# EAGLE library part DC/DC_CONV_24V (library launch-tower)
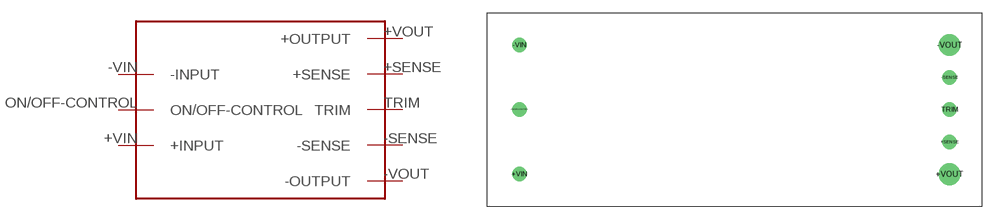
[diagram p1: symbol with the pads of UWE; footprint UWE]

Designator prefix -

## DC/DC_CONV_24V  [UWE]
+SENSE  +SENSE
+VIN  +INPUT
+VOUT  +OUTPUT
-SENSE  -SENSE
-VIN  -INPUT
-VOUT  -OUTPUT
ON/OFF-CONTROL  ON/OFF-CONTROL
TRIM  TRIM

## Footprint UWE (pad centres in mm)
drill 1.143: +SENSE 25.4,-3.81; +VIN -25.4,-7.62; -SENSE 25.4,3.81; -VIN -25.4,7.62; ON/OFF-CONTROL -25.4,0; TRIM 25.4,0
drill 1.702: +VOUT 25.4,-7.62; -VOUT 25.4,7.62